# Altium footprint library SparkFun-Connectors.PCBLIB: 379 footprints (part 17 of 24)
Each footprint in its own frame and in the unit in brackets; x right, y up, seen from the top. Pads: shape width x height; smd on the part's side, far side on the other; paste and mask are expansions set on the pad; w line width, h text height; cw(c..) or ccw(c..) is an arc to the next point about the centre after c.
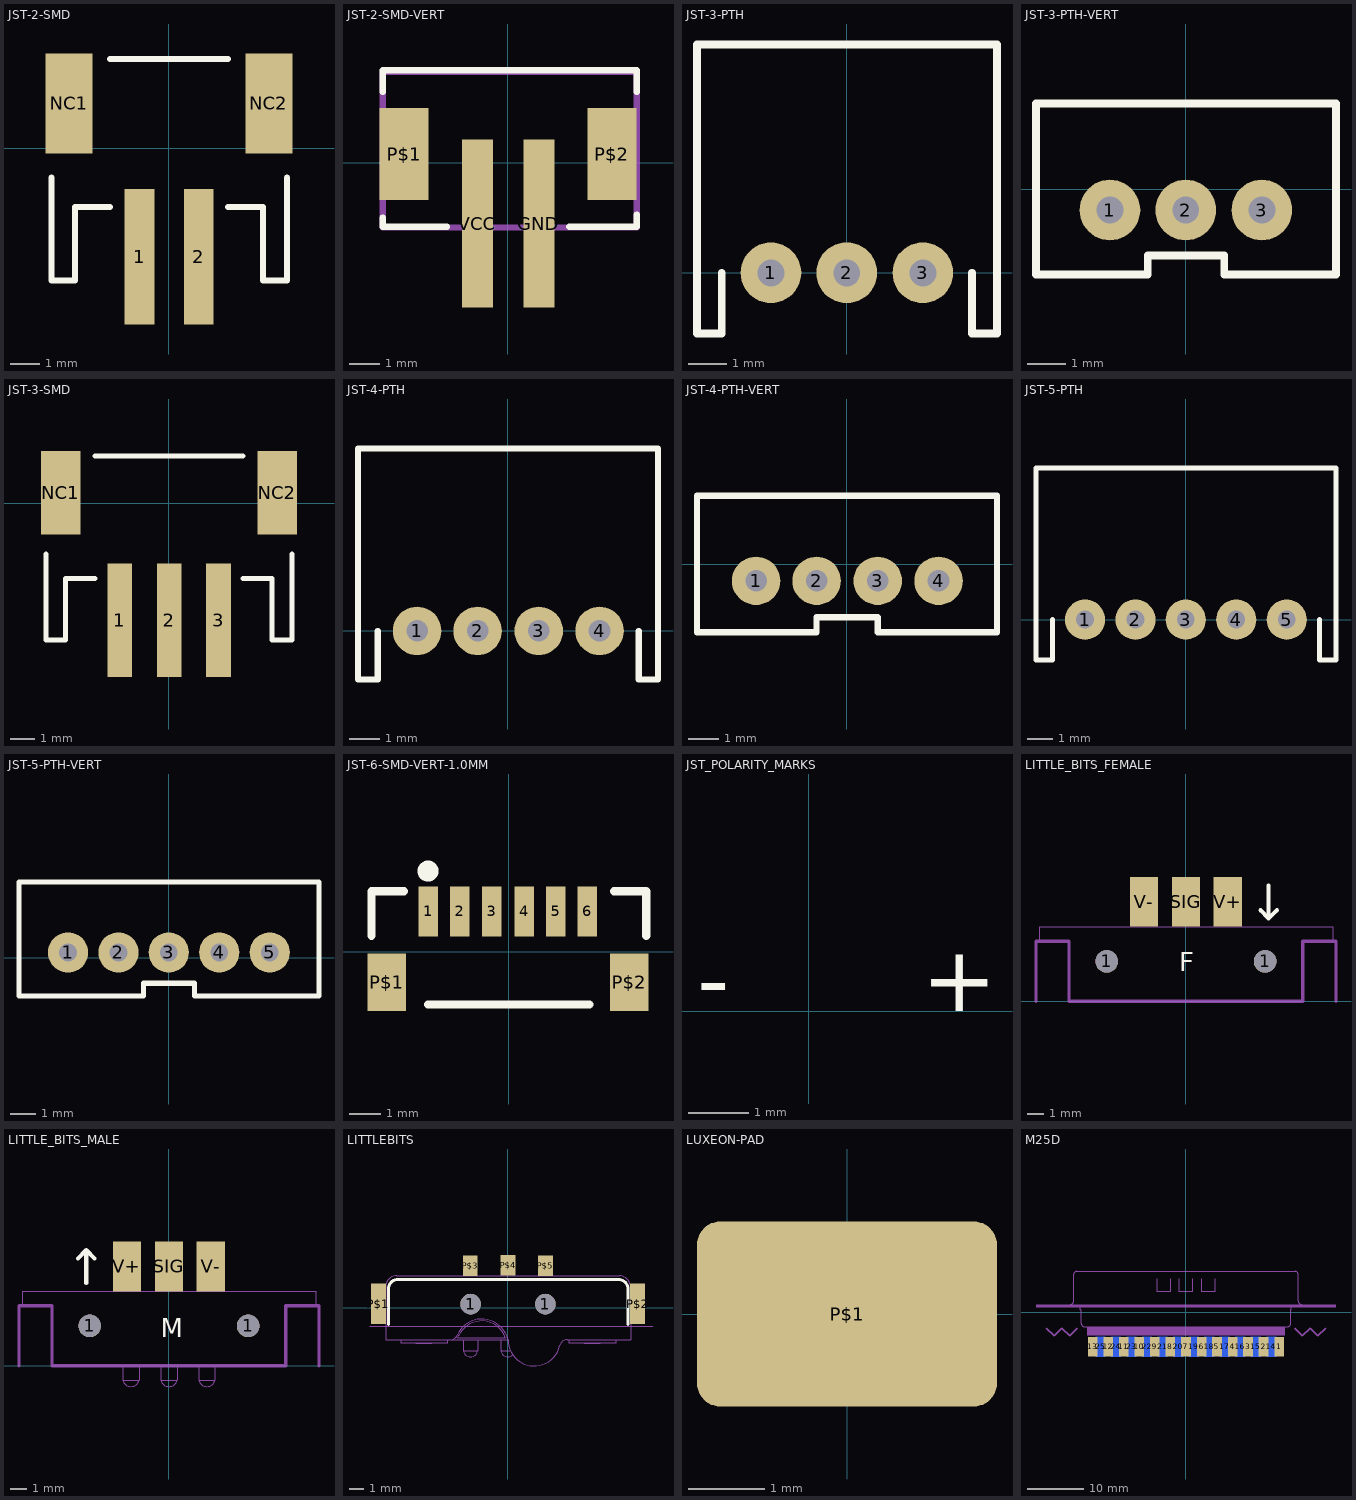
[diagram p16: the footprints below, top view; thin cyan lines are the x and y axes]

## JST-2-SMD [mil]
pads (4):
  rect 40x182 smd: 1(-39.37,-145.67) 2(40,-145.67)
  rect 63x134 smd: NC1(-133.86,60) NC2(134,60)
Top Overlay:
  lines w8: -157.48,-39.37 -157.48,-177.17 -125.98,-177.17 -125.98,-78.74 -78.74,-78.74 ; -78.74,119 79,119 ; 79,-78.74 126,-78.74 126,-177.17 158,-177.17 158,-39.37
Mechanical 2:
  text ">Name" at -50,50 h24.8
Mechanical 4:
  text ">Value" at -50,0 h24.8

## JST-2-SMD-VERT [mil]
pads (4):
  rect 40x217 smd: GND(40,-78.74) VCC(-39.37,-78.74)
  rect 63x119 smd: P$1(-133.86,11) P$2(134,11)
Top Overlay:
  lines w8: -161.42,-70.87 -161.42,-82.68 -78.74,-82.68 ; -161.42,91 -161.42,119 166,119 166,91 ; 79,-82.68 166,-82.68 166,-66.93
Mechanical 2:
  text ">Name" at 100,-200 h77.5
Mechanical 4:
  text ">Value" at 89,138 h77.5
Mechanical 16:
  lines w8: -161.42,-83.86 166,-83.86 166,117 -161.42,117 -161.42,-83.86

## JST-3-PTH [mil]
pads (3):
  round 63 hole 28: 1(-78.74,0) 2(0,0) 3(79,0)
Top Overlay:
  lines w8: -129.92,0 -129.92,-62.99 -155.51,-62.99 -155.51,237 156,237 156,-62.99 130,-62.99 130,0
Mechanical 2:
  text ">Name" at -50,207 h24.8
Mechanical 4:
  text ">Value" at -50,157 h24.8
Mechanical 16:
  text "+" at -94.49,27 h77.5
  text "-" at -15.75,27 h77.5
  text "S" at 67,35 h49.6

## JST-3-PTH-VERT [mil]
pads (3):
  round 63 hole 28: 1(-78.74,-21.65) 2(0,-21.65) 3(79,-21.65)
Top Overlay:
  lines w8: -155.51,-88.58 -155.51,89 156,89 156,-88.58 40,-88.58 40,-68.9 -39.37,-68.9 -39.37,-88.58 -155.51,-88.58
Mechanical 2:
  text ">Name" at -118.11,119 h24.8
Mechanical 4:
  text ">Value" at 40,119 h24.8
Mechanical 16:
  text "+" at -94.49,30 h77.5
  text "-" at -15.75,30 h77.5
  text "S" at 67,38 h49.6

## JST-3-SMD [mil]
pads (5):
  rect 40x182 smd: 1(-78.35,-187.8) 2(1,-187.8) 3(80,-187.8)
  rect 63x134 smd: NC1(-172.83,17) NC2(174,17)
Top Overlay:
  lines w8: -196.46,-81.5 -196.46,-219.29 -164.96,-219.29 -164.96,-120.87 -117.72,-120.87 ; -117.72,76 119,76 ; 119,-120.87 166,-120.87 166,-219.29 198,-219.29 198,-81.5
Mechanical 2:
  text ">Name" at -88.98,8 h24.8
Mechanical 4:
  text ">Value" at -88.98,-42.13 h24.8

## JST-4-PTH [mil]
pads (4):
  round 63 hole 28: 1(-118.11,0) 2(-39.37,0) 3(40,0) 4(119,0)
Top Overlay:
  lines w8: -169.29,0 -169.29,-62.99 -194.88,-62.99 -194.88,237 195,237 195,-62.99 170,-62.99 170,0
Mechanical 2:
  text ">Name" at -89.37,208 h24.8
Mechanical 4:
  text ">Value" at -89.37,158 h24.8
Mechanical 16:
  text "+" at -133.86,28 h77.5
  text "-" at -55.12,28 h77.5
  text "S" at 28,36 h49.6
  text "S" at 107,36 h49.6

## JST-4-PTH-VERT [mil]
pads (4):
  round 63 hole 28: 1(-118.11,-21.65) 2(-39.37,-21.65) 3(40,-21.65) 4(119,-21.65)
Top Overlay:
  lines w8: -194.88,-88.58 -194.88,89 195,89 195,-88.58 40,-88.58 40,-68.9 -39.37,-68.9 -39.37,-88.58 -194.88,-88.58
Mechanical 2:
  text ">Name" at -118.11,119 h24.8
Mechanical 4:
  text ">Value" at 40,119 h24.8
Mechanical 16:
  text "+" at -55.12,30 h77.5
  text "-" at 24,30 h77.5
  text "Y" at 107,38 h49.6
  text "B" at -129.92,38 h49.6

## JST-5-PTH [mil]
pads (5):
  round 63 hole 28: 1(-157.48,0) 2(-78.74,0) 3(0,0) 4(79,0) 5(158,0)
Top Overlay:
  lines w8: -208.66,0 -208.66,-62.99 -234.25,-62.99 -234.25,237 235,237 235,-62.99 209,-62.99 209,0
Mechanical 2:
  text ">Name" at -128.74,208 h24.8
Mechanical 4:
  text ">Value" at -128.74,158 h24.8

## JST-5-PTH-VERT [mil]
pads (5):
  round 63 hole 28: 1(-157.48,8) 2(-78.74,8) 3(0,8) 4(79,8) 5(158,8)
Top Overlay:
  lines w8: -234.25,-59.84 -234.25,118 235,118 235,-59.84 40,-59.84 40,-40.16 -39.37,-40.16 -39.37,-59.84 -234.25,-59.84
Mechanical 2:
  text ">Name" at -157.48,147 h24.8
Mechanical 4:
  text ">Value" at 0,147 h24.8

## JST-6-SMD-VERT-1.0MM [mil]
pads (8):
  rect 24x62 smd: 1(-100,50) 2(-60.63,50) 3(-21.26,50) 4(19,50) 5(58,50) 6(97,50)
  rect 48x71 smd: P$1(-151.18,-37.6) P$2(149,-37.6)
Top Overlay:
  circle w16: c-100,100 r5
  lines w10: -170,20 -170,75 -130,75 ; -100,-65 100,-65 ; 130,75 170,75 170,20
Mechanical 2:
  text ">Name" at -50,100 h24.8
Mechanical 4:
  text ">VALUE" at -50,-100 h24.8

## JST_POLARITY_MARKS [mil]
Top Overlay:
  text "+" at 73,0 h42.5
  text "-" at -72.5,0 h42.5
Mechanical 16:
  text "+" at 73,0 h42.5
  text "-" at -72.5,0 h42.5

## LITTLE_BITS_FEMALE [mil]
pads (5):
  round 54 hole 54: 1(-188.58,95) 1(189,95)
  rect 67x119 smd: SIG(0,237) V+(100,237) V-(-100,237)
Top Overlay:
  lines w10: 178,217 197,197 ; 197,276 197,197 ; 217,217 197,197
  text "F" at -15.75,56 h77.5
Mechanical 1:
  lines w8: -357.28,0 -357.28,143 -278.54,143 -278.54,0 279,0 279,143 358,143 358,0
Mechanical 16:
  lines w1: -349.41,143 -349.41,178 350,178 350,143

## LITTLE_BITS_MALE [mil]
pads (5):
  round 54 hole 54: 1(-188.58,95) 1(189,95)
  rect 67x119 smd: SIG(0,237) V+(-100,237) V-(100,237)
Top Overlay:
  lines w10: -216.54,256 -196.85,276 ; -196.85,197 -196.85,276 ; -177.17,256 -196.85,276
  text "M" at -19,52 h77.5
Mechanical 1:
  lines w8: -357.28,0 -357.28,143 -278.54,143 -278.54,0 279,0 279,143 358,143 358,0
Mechanical 16:
  lines w0: -110.11,-4.09 -110.11,-34.09 ; -71.11,-4.09 -71.11,-34.09 ; -19.11,-4.09 -19.11,-34.09 ; 20,-4.09 20,-34.09 ; 71,-4.09 71,-34.09 ; 110,-4.09 110,-34.09 ; -110.11,-34.09 -71.11,-34.09 ; -110.11,-34.09 ccw(c-90.61,-29.64) -71.11,-34.09 ; -19.11,-34.09 20,-34.09 ; -19.11,-34.09 ccw(c0.44,-29.63) 20,-34.09 ; 71,-34.09 110,-34.09 ; 71,-34.09 ccw(c90.5,-29.64) 110,-34.09
  lines w1: -349.41,143 -349.41,178 350,178 350,143

## LITTLEBITS [mil]
pads (7):
  round 55 hole 55: 1(-99,9) 1(101,9)
  rect 40x109 smd: P$1(-346,10) P$2(348,10)
  rect 40x55 smd: P$3(-100,112) P$4(1,113) P$5(101,112)
Top Overlay:
  lines w8: -319,-45.5 -319,50 cw(c-294,50) -294,75 297,75 cw(c297,50) 322,50 322,-45.5
Mechanical 16:
  circle w1: c-99.19,10 r25
  circle w1: c-99.19,10 r15
  circle w1: c101,10 r25
  circle w1: c101,10 r15
  lines w0: -369,-49.5 389,-49.5 ; -326.69,60 -326.69,-40.97 ; -286.69,-85.97 -286.69,-95.97 -161.69,-95.97 -161.69,-85.97 ; -245.85,-95.97 -245.85,-96.97 -204.19,-96.97 -204.19,-95.97 ; -236.48,-96.97 -236.48,-95.97 ; -210.43,-96.97 -210.43,-95.97 ; -137.44,-77.97 -133.44,-80.97 ; -118.69,-85.97 -118.69,-115.97 ; -114.19,85 -114.19,135 -84.19,135 -84.19,85 ; -79.69,-85.97 -79.69,-115.97 ; -14.19,85 -14.19,135 16,135 16,85 ; -1.41,-79.42 -5.87,-80.97 ; 8,-115.97 -18.68,-115.97 ; 14,-126.62 cw(c0.85,-111.5) -18.68,-115.97 ; 86,85 86,135 116,135 116,85 ; 329,-40.97 364,-40.97 364,-3.47 cw(c364,9.27) 364,22 364,60 329,60 ; -326.69,-40.97 -326.69,-85.97 -153.44,-85.97 ; -326.69,-40.97 -361.69,-40.97 -361.69,-3.47 ccw(c-361.69,9.27) -361.69,22 -361.69,60 -326.26,60 cw(c-296.68,55) -296.69,85 116,85 ; -153.44,-85.97 -18.68,-85.97 ; -153.44,-85.97 ccw(c-153.44,-65.97) -135.13,-74.02 ; -135.13,-74.02 -130.56,-76.03 ; -135.13,-74.02 -135.14,-74.02 ; -135.14,-74.02 cw(c-69.09,-103.05) 1,-85.97 ; -133.44,-80.97 -5.87,-80.97 ; -133.44,-80.97 ccw(c-153.44,-65.97) -130.56,-76.03 ; -130.56,-76.03 cw(c-69.18,-103.02) -5.87,-80.97 ; -118.69,-115.97 -79.69,-115.97 ; -118.69,-115.97 ccw(c-99.19,-111.52) -79.68,-115.97 ; -18.68,-115.97 -18.68,-85.97 ; -18.68,-85.97 1,-85.97 ; 1,-85.97 1,-85.97 ; 1,-85.97 ccw(c71.38,-85.93) 140,-101.52 cw(c159.25,-105.66) 159,-85.97 164,-85.97 ; 116,85 299,85 cw(c298.71,55.34) 328,60 329,60 ; 164,-85.97 289,-85.97 ; 164,-85.97 164,-95.97 205,-95.97 ; 205,-95.97 214,-95.97 ; 205,-95.97 205,-96.97 214,-96.97 ; 214,-96.97 240,-96.97 ; 214,-96.97 214,-95.97 ; 214,-95.97 240,-95.97 ; 240,-96.97 246,-96.97 246,-95.97 ; 240,-96.97 240,-95.97 ; 240,-95.97 246,-95.97 ; 246,-95.97 289,-95.97 289,-85.97 ; 289,-85.97 329,-85.97 329,60

## LUXEON-PAD [mil]
pads (1):
  rrect25% 154x95 smd: P$1(0,0)
Mechanical 2:
  text ">NAME" at -59.06,79 h77.5
Mechanical 4:
  text ">VALUE" at -59.06,-118.11 h77.5

## M25D [mil]
pads (25):
  rect 67x138 smd: 1(649,-237.98) 2(540,-237.99) 3(432,-237.98) 4(325,-237.98) 5(216,-237.98) 6(109,-237.98) 7(0,-237.99) 8(-108.01,-237.98) 9(-215.99,-237.98) 10(-324.01,-237.98) 11(-431.99,-237.98) 12(-540,-237.99) 13(-648.01,-237.98)
  rect 67x138 smd far side: 14(594,-238) 15(486,-238) 16(378,-238) 17(270,-238) 18(162,-238) 19(54,-238) 20(-54,-238) 21(-162,-238) 22(-270,-238) 23(-378,-238) 24(-486,-238) 25(-594,-238)
Mechanical 2:
  text ">NAME" at -200,-350 h24.8
Mechanical 4:
  text ">VALUE" at 0,-350 h24.8
Mechanical 16:
  rectangle: -1043.31,36 1044,56
  rectangle: -688.98,-161.42 689,-98.43
  lines w6: -805,56 ccw(c-805,81) -780,81 -780,266 cw(c-760,266) -760,286 760,286 cw(c760,266) 780,266 780,81 ccw(c805,81) 805,56 ; -734,40 -734,20 -729,20 -729,-75 ccw(c-704,-75) -704,-100 ; -704.76,-100 704,-100 ; -200,235 -200,145 -110,145 -110,235 ; -45,235 -45,145 45,145 45,235 ; 110,235 110,145 200,145 200,235 ; 705,-100 704,-100 ; 734,40 734,20 729,20 729,-75 cw(c704,-75) 704,-100
  text "1" at 631,-85.77 h77.5
  text "13" at -663.8,-85.77 h77.5
  text "M25D" at -678,181 h77.5
Mechanical 30:
  lines w10: -972,-108 -918,-162 -864,-108 -810,-162 -756,-108 ; 756,-108 810,-162 864,-108 918,-162 972,-108
  text "Board" at 774,-100 h77.5
  text "25" at -577.19,-32.48 h77.5
  text "14" at 616,-32.48 h77.5
  text "Board" at -974,-100 h77.5